# Altium schematic symbol library Passives.SchLib: 32 symbols
Pins are listed as number, name and electrical type; pins without a type are passive.

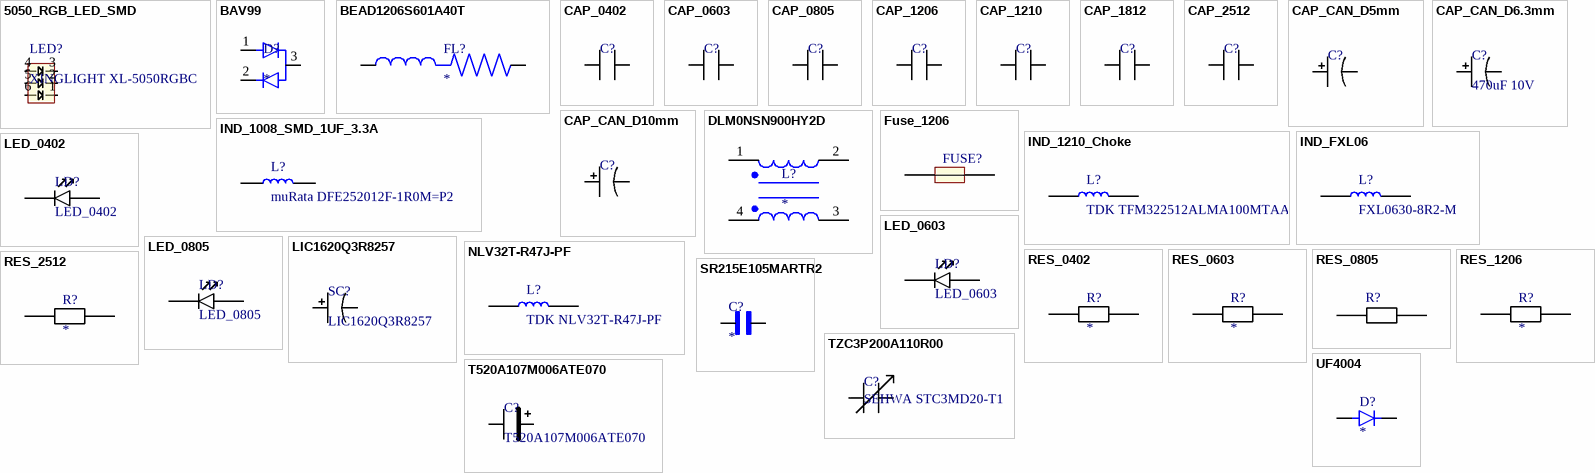
[diagram p0: symbols 5050_RGB_LED_SMD to UF4004]

## 5050_RGB_LED_SMD
designator LED?, comment XINGLIGHT XL-5050RGBC
120° SMD5050-6P LED Indication - Discrete RoHS; val: XINGLIGHT XL-5050RGBC; note: *; sample link: https://www.lcsc.com/product-detail/C2843868.html?s_z=n_5050%2520led%2520rgb
footprint 5050_RGB_LED_SMD
pins: 1, 2, 3, 4, 5, 6

## BAV99
designator D?
Diode Array 1 Pair Series Connection Standard 100V 215mA (DC) Surface Mount TO-236-3, SC-59, SOT-23-3; MP: BAV99; MF: ON Semiconductor; Price: None; Availability: In Stock; Package: SOT-23-3 Motorola; SnapEDA_Link: https://www.snapeda.com/parts/BAV99/Onsemi/view-part/?ref=snap; Check_prices: https://www.snapeda.com/parts/BAV99/Onsemi/view-part/?ref=eda; Value: *; Purchase-URL: https://pricing.snapeda.com/search/part/BAV99/?ref=eda
footprint DIO_BAV99
pins: 1, 2, 3

## BEAD1206S601A40T
designator FL?
MF: Murata; MP: BLM03EB500SZ1D; SnapEDA_Link: https://www.snapeda.com/parts/BLM03EB500SZ1D/Murata/view-part/?ref=snap; Package: 0603 Murata; Value: *; Check_prices: https://www.snapeda.com/parts/BLM03EB500SZ1D/Murata/view-part/?ref=eda
footprint BEADC0603X33N
pins: 1, 2

## CAP_0402
designator C?
CAP_0402; note: any manufacturer
footprint CAP_0402 (Chip Capacitor, 2-Leads, Body 1,06x0,51mm, IPC Medium Density)
pins: 1, 2

## CAP_0603
designator C?  (value not drawn)
CAP_0603; note: any manufacturer; val: *
footprint CAP_0603 (Chip Capacitor, 2-Leads, Body 1,57x0,78mm, IPC Medium Density)
pins: 1, 2

## CAP_0805
designator C?  (value not drawn)
CAP_0805; note: any manufacturer; val: *
footprint CAP_0805 (Chip Capacitor, 2-Leads, Body 2,03x1,35mm, IPC Medium Density)
pins: 1, 2

## CAP_1206
designator C?  (value not drawn)
CAP_1206; note: any manufacturer; val: *
footprint CAP_1206 (Chip Capacitor, 2-Leads, Body 3,05x1,56mm, IPC Medium Density)
pins: 1, 2

## CAP_1210
designator C?  (value not drawn)
CAP_1210; note: any manufacturer; val: *
footprint CAP_1210 (Chip Capacitor, 2-Leads, Body 3,05x1,56mm, IPC Medium Density)
pins: 1, 2

## CAP_1812
designator C?  (value not drawn)
CAP_1812; note: any manufacturer; val: *
footprint CAP_1812 (Chip Capacitor, 2-Leads, Body 3,05x1,56mm, IPC Medium Density)
pins: 1, 2

## CAP_2512
designator C?  (value not drawn)
CAP_2512; note: any manufacturer; val: *
footprint CAP_2512 (Chip Capacitor, 2-Leads, Body 3,05x1,56mm, IPC Medium Density)
pins: 1, 2

## CAP_CAN_D5mm
designator C?, comment 10uf  (value not drawn)
SMD Can Capacitor; 5mm Diameter; note: any manufacturer; val: 10uf; sample link: https://www.lcsc.com/product-detail/C3357.html?s_z=n_10uF%2520SMD%2520Can%2520Capacitor%2520D5%2520RVT
footprint CAP_CAN_D5MM (Aluminum Electrolytic Capacitor, Body 5,40x5,40x5,50mm, IPC Low Density)
pins: 1, 2

## CAP_CAN_D6.3mm
designator C?, comment 470uF 10V
SMD Can Capacitor; 6.3mm Diameter; note: any manufacturer; val: 470uF 10V; sample link: https://www.lcsc.com/product-detail/C2977552.html
footprint CAP_CAN_D6.3MM
pins: 1, 2

## CAP_CAN_D10mm
designator C?, comment 47uf 100v  (value not drawn)
SMD Can Capacitor; 10mm Diameter; note: Original; val: 47uf 100v; sample link: https://www.lcsc.com/product-detail/Aluminum-Electrolytic-span-style-background-color-ff0-Capacitors-span-SMD_ROQANG-RVT2A470M1010_C335988.html
footprint CAP_CAN_D10mm (Aluminum Electrolytic Capacitor, Body 5,40x5,40x5,50mm, IPC Low Density)
pins: 1, 2

## DLM0NSN900HY2D
designator L?
2 Line Common Mode Choke Surface Mount 90 Ohms @ 100MHz 100mA DCR 5Ohm; val: DLM0NSN900HY2D; note: *; sample link: https://www.lcsc.com/product-detail/C882594.html
footprint FIL_DLM0NSN900HY2D
pins: 1, 2, 3, 4

## Fuse_1206
designator FUSE?
Fuse_1206; sample link: https://item.taobao.com/item.htm?abbucket=8&id=562837668942&ns=1&spm=a230r.1.14.1.30d440c1oWmyxt; note: https://item.taobao.com/item.htm?abbucket=8&id=562837668942&ns=1&spm=a230r.1.14.1.30d440c1oWmyxt
footprint FUSE_1206
pins: 1, 2

## IND_1008_SMD_1UF_3.3A
designator L?, comment muRata DFE252012F-1R0M=P2
3.3A 1uH 4.7A 40mΩ ±20% 1008 Fixed Inductors RoHS; val: muRata DFE252012F-1R0M=P2; note: *; sample link: https://www.lcsc.com/product-detail/C435392.html
footprint IND_1008
pins: 1, 2

## IND_1210_Choke
designator L?, comment TDK TFM322512ALMA100MTAA
Precision Wire Wound Inductor, 2-Leads, Body 4,50x4,00mm, IPC Medium Density; note: Original; val: TDK TFM322512ALMA100MTAA; sample link: https://www.lcsc.com/product-detail/C2047632.html
footprint IND_1210
pins: 1, 2

## IND_FXL06
designator L?, comment FXL0630-8R2-M
Precision Wire Wound Inductor, 2-Leads, Body 4,50x4,00mm, IPC Medium Density; note: original; val: FXL0630-8R2-M; sample link: https://www.lcsc.com/product-detail/span-style-background-color-ff0-Power-span-Inductors_cjiang-Changjiang-Microelectronics-Tech-FXL0630-8R2-M_C167222.html
footprint IND_FXL06 (Footprint not found)
pins: 1, 2

## LED_0402
designator LD?
footprint LED_0402 (Chip Capacitor, 2-Leads, Body 1,53x0,77mm, IPC Medium Density)
pins: 1, 2

## LED_0603
designator LD?
footprint LED_0603 (Chip Capacitor, 2-Leads, Body 1,53x0,77mm, IPC Medium Density)
pins: 1, 2

## LED_0805
designator LD?
footprint LED_0805
pins: 1, 2

## LIC1620Q3R8257
designator SC?
250 F (EDLC) Supercapacitor 3.8 V Radial, Can 50mOhm @ 1kHz 1000 Hrs @ 85°C; val: LIC1620Q3R8257; note: *; sample link: https://item.taobao.com/item.htm?_u=e2r4v2sjdebc&id=738986121672&skuId=5097180376418&spm=a1z09.2.0.0.75e02e8dnkHqom
footprint LIC1620
pins: 1, 2

## NLV32T-R47J-PF
designator L?, comment TDK NLV32T-R47J-PF
450mA 470nH 500mΩ Magnetic Shielded Inductor ±5% 1210 Fixed Inductors RoHS; note: Original; val: TDK NLV32T-R47J-PF; sample link: https://www.lcsc.com/product-detail/C89029.html?s_z=n_NLV32T-R47J-PF
footprint IND_1210
pins: 1, 2

## RES_0402
designator R?
RES_0402; note: any manufacturer; val: *
footprint RES_0402
pins: 1, 2

## RES_0603
designator R?
RES_0603; note: any manufacturer; val: *
footprint RES_0603
pins: 1, 2

## RES_0805
designator R?  (value not drawn)
RES_0805; note: any manufacturer; val: *
footprint RES_0805
pins: 1, 2

## RES_1206
designator R?
RES_1206; note: any manufacturer; val: *
footprint RES_1206
pins: 1, 2

## RES_2512
designator R?
RES_2512; note: any manufacturer; val: *
footprint RES_2512
pins: 1, 2

## SR215E105MARTR2
designator C?
SR 1uF Ceramic Multilayer Capacitor,50VDC,+85C,Z5U Dielectric,+/-20%,Thru Hole | AVX SR215E105MARTR2; SnapEDA_Link: https://www.snapeda.com/parts/SR215E105MARTR2/AVX/view-part/?ref=snap; Package: Radial AVX; Value: *; MF: AVX; MP: SR215E105MARTR2; Check_prices: https://www.snapeda.com/parts/SR215E105MARTR2/AVX/view-part/?ref=eda
footprint CAPRR508W50L508T317H508
pins: 1, 2

## T520A107M006ATE070
designator C?
100uF ±20% 6.3V Tantalum Capacitors 70mΩ@100kHz CASE-A-3216-18(mm); note: Original; val: T520A107M006ATE070; sample link: https://www.lcsc.com/product-detail/C561794.html
footprint T520A107M006ATE070
pins: 1, 2

## TZC3P200A110R00
designator C?, comment SEHWA STC3MD20-T1
250@1MHz 5.8pF~20pF 0%~+50% 100V SMD,4.5x3.2mm Trimmers, Variable Capacitors RoHS; val: SEHWA STC3MD20-T1; sample link: https://www.lcsc.com/product-detail/C22468122.html
footprint SMD,4.5x3.2mm (300@1MHz 5pF~20pF 0%~+50% 100V SMD,4.5x3.2mm Trimmers, Variable Capacitors RoHS)
pins: 1, 2

## UF4004
designator D?
Diode Standard 400V 1A Through Hole DO-204AL (DO-41); MF: ON Semiconductor; MP: UF4004; SnapEDA_Link: https://www.snapeda.com/parts/UF4004/Onsemi/view-part/?ref=snap; Package: DO-41-2 ON Semiconductor; Value: *; Check_prices: https://www.snapeda.com/parts/UF4004/Onsemi/view-part/?ref=eda
footprint DIOAD1055W87L533D272
pins: A, C K